# Altium integrated library LDO_DCDC.IntLib: 35 symbols
Pins are listed as number, name and electrical type; pins without a type are passive.

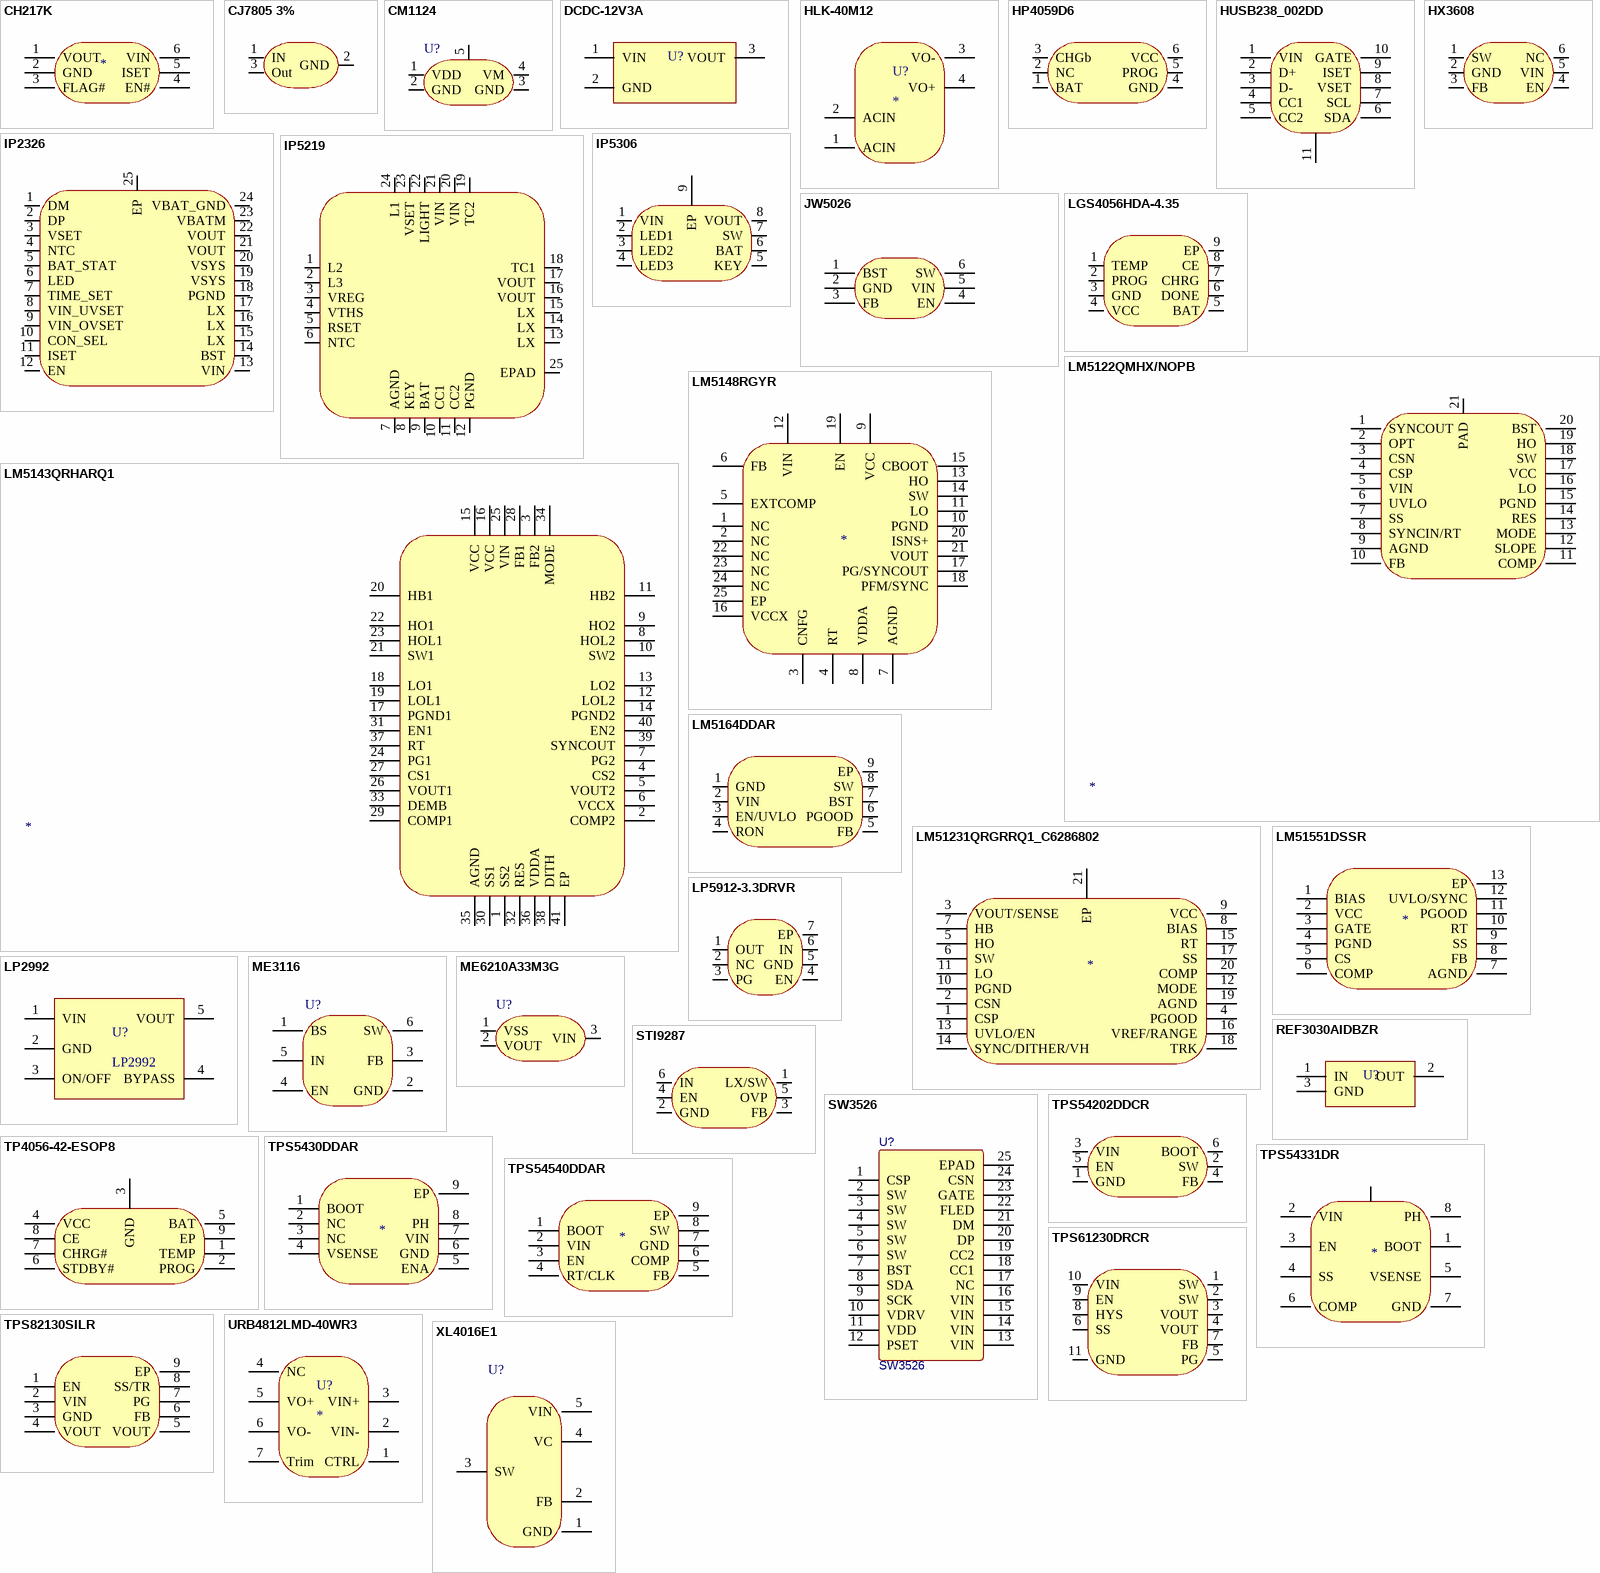
[diagram p0: symbols CH217K to XL4016E1]

## CH217K
designator U??
Symbol: CH217K
footprint SOT-23-6_L2.9-W1.6-P0.95-LS2.8-BR
pins: 1 VOUT, 2 GND, 3 FLAG#, 4 EN#, 5 ISET, 6 VIN

## CJ7805 3%
designator ?  (value not drawn)
Designer: U?; Symbol: CJ7805 3%; Device: CJ7805 3%
footprint TO-252-2_L6.6-W6.1-P4.58-LS10.1-BR-CW
pins: 1 IN, 2 GND, 3 Out

## CM1124
designator U?  (value not drawn)
Manufacturer: MICRONE(南京微盟); Name: ME6210A33M3G; Add into BOM: yes; Output Type: 固定; Output Polarity: 正; Number of Outputs: 1; Maximum Input Voltage: 18V; Output Voltage: 3.3V; Dropout Voltage: 260mV@(200mA); Output Current: 500mA; Symbol: ME6210A33M3G; Device: ME6210A33M3G; LCSC Part Name: ME6210A33M3G; Supplier Part: C236680; Manufacturer Part: ME6210A33M3G; Supplier Footprint: SOT-23; JLCPCB Part Class: 扩展库; Datasheet: https://atta.szlcsc.com/upload/public/pdf/source/20180709/C236680_4A9EFC836B6D96276770F83E6DC5A093.pdf; Supplier: LCSC; Convert to PCB: yes; Power Supply Rejection Ratio (PSRR): -
footprint DFN-4_L1.0-W1.0-P0.65-BL-EP-A
pins: 1 VDD, 2 GND, 3 GND, 4 VM, 5 EP

## DCDC-12V3A
designator U?
https://item.taobao.com/item.htm?spm=a230r.1.14.247.7f5f4dcbnTw3Vg&id=559221198936&ns=1&abbucket=7#detail
pins: 1 VIN, 2 GND, 3 VOUT

## HLK-40M12
designator U?
AC220V转DC12V隔离电源模块-AC-DC氮化镓稳压模块40W
footprint HLK-40M12
pins: 1 ACIN, 2 ACIN, 3 VO-, 4 VO+

## HP4059D6
designator U??  (value not drawn)
Manufacturer: TI(德州仪器); Name: TPS54202DDCR; Add into BOM: yes; Symbol: TPS54202DDCR; Device: TPS54202DDCR; LCSC Part Name: TPS54202DDCR; Supplier Part: C191884; Manufacturer Part: TPS54202DDCR; Supplier Footprint: SOT-23-6; JLCPCB Part Class: Extended Part; Datasheet: https://atta.szlcsc.com/upload/public/pdf/source/20181012/C191884_C6DBFD980275651BD8C8F427C2E48058.pdf; Supplier: LCSC; Convert to PCB: yes
footprint X2-DFN1010-6_L1.0-W1.0-P0.35-BL
pins: 1 BAT, 2 NC, 3 CHGb, 4 GND, 5 PROG, 6 VCC

## HUSB238_002DD
designator U??  (value not drawn)
Manufacturer: Hynetek(慧能泰); Add into BOM: yes; Symbol: HUSB238_002DD; Device: HUSB238_002DD; LCSC Part Name: HUSB238_002DD; Supplier Part: C7471904; Manufacturer Part: HUSB238_002DD; Supplier Footprint: DFN-10L(3x3); JLCPCB Part Class: Extended Part; Datasheet: https://atta.szlcsc.com/upload/public/pdf/source/20240407/14E2BCB22C39B22B34E48E1B6FC2FE3E.pdf; Supplier: LCSC; Convert to PCB: yes
footprint DFN-10_L3.0-W3.0-P0.50-BL-EP2.5
pins: 1 VIN, 2 D+, 3 D-, 4 CC1, 5 CC2, 6 SDA, 7 SCL, 8 VSET, 9 ISET, 10 GATE, 11 GND

## HX3608
designator U??  (value not drawn)
Manufacturer: HX(恒佳兴); Add into BOM: yes; Function: 升压型; Synchronous Rectification: 否; Number of Outputs: 1; Topology: 升压式; Input Voltage: 2V~24V; Output Voltage: 2.5V~28V; Output Current (Max): 3.5A; Switching Frequency: 1.2MHz; Name: HX3608; Symbol: HX3608; Device: HX3608; LCSC Part Name: 升压型 Vin=2V~24V Vout=2.5V~28V 3.5A; Supplier Part: C296278; Manufacturer Part: HX3608; Supplier Footprint: SOT-23-6L; JLCPCB Part Class: Extended Part; Datasheet: https://atta.szlcsc.com/upload/public/pdf/source/20181119/C296278_77FFD4221F60AEB235A13FC0B82FB718.pdf; Supplier: LCSC; Convert to PCB: yes
footprint SOT-23-6_L2.9-W1.6-P0.95-LS2.8-BR
pins: 1 SW, 2 GND, 3 FB, 4 EN, 5 VIN, 6 NC

## IP2326
designator U??  (value not drawn)
Manufacturer: INJOINIC(英集芯); Add into BOM: yes; Name: IP2326; Symbol: IP2326; Device: IP2326; LCSC Part Name: IP2326; Supplier Part: C2832094; Manufacturer Part: IP2326; Supplier Footprint: VQFN-24-EP(4x4); JLCPCB Part Class: Extended Part; Datasheet: https://atta.szlcsc.com/upload/public/pdf/source/20210701/C2832094_E17C44C11E64EBC07E8B83E7E48DDEF6.pdf; Supplier: LCSC; Convert to PCB: yes
footprint VQFN-24_L4.0-W4.0-P0.50-BL-EP2.5
pins: 1 DM, 2 DP, 3 VSET, 4 NTC, 5 BAT_STAT, 6 LED, 7 TIME_SET, 8 VIN_UVSET, 9 VIN_OVSET, 10 CON_SEL, 11 ISET, 12 EN, 13 VIN, 14 BST, 15 LX, 16 LX, 17 LX, 18 PGND, 19 VSYS, 20 VSYS, 21 VOUT, 22 VOUT, 23 VBATM, 24 VBAT_GND, 25 EP

## IP5219
designator U??  (value not drawn)
Manufacturer: INJOINIC(英集芯); Add into BOM: yes; Name: IP5219; Symbol: IP5219; Device: IP5219; LCSC Part Name: IP5219; Supplier Part: C181694; Manufacturer Part: IP5219; Supplier Footprint: QFN-24(4x4); JLCPCB Part Class: Extended Part; Datasheet: https://atta.szlcsc.com/upload/public/pdf/source/20221031/B544D9C3F53140D2F37FEB3A67CECE73.pdf; Supplier: LCSC; Convert to PCB: yes
footprint QFN_24
pins: 1 L2, 2 L3, 3 VREG, 4 VTHS, 5 RSET, 6 NTC, 7 AGND, 8 KEY, 9 BAT, 10 CC1, 11 CC2, 12 PGND, 13 LX, 14 LX, 15 LX, 16 VOUT, 17 VOUT, 18 TC1, 19 TC2, 20 VIN, 21 VIN, 22 LIGHT, 23 VSET, 24 L1, 25 EPAD

## IP5306
designator U??  (value not drawn)
Manufacturer: INJOINIC(英集芯); Add into BOM: yes; Name: IP5306; Symbol: IP5306; Device: IP5306; LCSC Part Name: IP5306; Supplier Part: C181692; Manufacturer Part: IP5306; Supplier Footprint: ESOP-8; JLCPCB Part Class: Extended Part; Datasheet: https://atta.szlcsc.com/upload/public/pdf/source/20180920/C181692_842C9BF636DF123BB66E91FC1AD6F13F.pdf; Supplier: LCSC; Convert to PCB: yes
footprint ESOP-8_L4.9-W3.9-P1.27-LS6.0-BL-EP
pins: 1 VIN, 2 LED1, 3 LED2, 4 LED3, 5 KEY, 6 BAT, 7 SW, 8 VOUT, 9 EP

## JW5026
designator U??
Symbol: JW5026
footprint SOT-23-6_L2.9-W1.6-P0.95-LS2.8-BR
pins: 1 BST, 2 GND, 3 FB, 4 EN, 5 VIN, 6 SW

## LGS4056HDA-4.35
designator ?  (value not drawn)
Designer: U?; Symbol: LGS4056HDA-4.35; Device: LGS4056HDA-4.35
footprint DFN-8_L2.0-W2.0-P0.50-BL-EP
pins: 1 TEMP, 2 PROG, 3 GND, 4 VCC, 5 BAT, 6 DONE, 7 CHRG, 8 CE, 9 EP

## LM5122QMHX/NOPB
designator U??
Symbol: LM5122QMHX/NOPB
footprint TSSOP-20_L6.5-W4.4-P0.65-LS6.4-BL-EP
pins: 1 SYNCOUT, 2 OPT, 3 CSN, 4 CSP, 5 VIN, 6 UVLO, 7 SS, 8 SYNCIN/RT, 9 AGND, 10 FB, 11 COMP, 12 SLOPE, 13 MODE, 14 RES, 15 PGND, 16 LO, 17 VCC, 18 SW, 19 HO, 20 BST, 21 PAD

## LM5143QRHARQ1
designator U??
Symbol: LM5143QRHARQ1
footprint VQFN-40_L6.0-W6.0-P0.50-TL-EP3.3
pins: 1 SS2, 2 COMP2, 3 FB2, 4 CS2, 5 VOUT2, 6 VCCX, 7 PG2, 8 HOL2, 9 HO2, 10 SW2, 11 HB2, 12 LOL2, 13 LO2, 14 PGND2, 15 VCC, 16 VCC, 17 PGND1, 18 LO1, 19 LOL1, 20 HB1, 21 SW1, 22 HO1, 23 HOL1, 24 PG1, 25 VIN, 26 VOUT1, 27 CS1, 28 FB1, 29 COMP1, 30 SS1, 31 EN1, 32 RES, 33 DEMB, 34 MODE, 35 AGND, 36 VDDA, 37 RT, 38 DITH, 39 SYNCOUT, 40 EN2, 41 EP

## LM5148RGYR
designator U??
Symbol: LM5148RGYR
footprint VQFN-24_L5.5-W3.5-P0.50-BL-EP-2
pins: 1 NC, 2 NC, 3 CNFG, 4 RT, 5 EXTCOMP, 6 FB, 7 AGND, 8 VDDA, 9 VCC, 10 PGND, 11 LO, 12 VIN, 13 HO, 14 SW, 15 CBOOT, 16 VCCX, 17 PG/SYNCOUT, 18 PFM/SYNC, 19 EN, 20 ISNS+, 21 VOUT, 22 NC, 23 NC, 24 NC, 25 EP

## LM5164DDAR
designator U??  (value not drawn)
Manufacturer: TI(德州仪器); Add into BOM: yes; Function: 降压型; Synchronous Rectification: 是; Output Type: 可调; Number of Outputs: 1; Topology: 降压式; Input Voltage: 6V~100V; Output Voltage: 1.2V~100V; Output Current (Max): 1A; Switching Frequency: 1MHz; Name: LM5164DDAR; Symbol: LM5164DDAR; Device: LM5164DDAR; LCSC Part Name: 降压型 输入6V~100V 输出1.2V~100V 1A; Supplier Part: C477928; Manufacturer Part: LM5164DDAR; Supplier Footprint: SO-8-EP; JLCPCB Part Class: Extended Part; Datasheet: https://atta.szlcsc.com/upload/public/pdf/source/20200102/C477928_A6130A40DCA2C193067E68A47DE8CF0C.pdf; Supplier: LCSC; Convert to PCB: yes; Operating Temperature: -40℃~+150℃@(TJ)
footprint SO-8_L4.9-W3.9-P1.27-LS6.0-BL-EP
pins: 1 GND, 2 VIN, 3 EN/UVLO, 4 RON, 5 FB, 6 PGOOD, 7 BST, 8 SW, 9 EP

## LM51231QRGRRQ1_C6286802
designator U??
Symbol: LM51231QRGRRQ1_C6286802
footprint VQFN-20_L3.5-W3.5-P0.50-BL-EP2.1
pins: 1 CSP, 2 CSN, 3 VOUT/SENSE, 4 PGOOD, 5 HO, 6 SW, 7 HB, 8 BIAS, 9 VCC, 10 PGND, 11 LO, 12 MODE, 13 UVLO/EN, 14 SYNC/DITHER/VH, 15 RT, 16 VREF/RANGE, 17 SS, 18 TRK, 19 AGND, 20 COMP, 21 EP

## LM51551DSSR
designator U??
Symbol: LM51551DSSR
footprint WSON-12_L3.0-W2.0-P0.5-BL-EP2.7
pins: 1 BIAS, 2 VCC, 3 GATE, 4 PGND, 5 CS, 6 COMP, 7 AGND, 8 FB, 9 SS, 10 RT, 11 PGOOD, 12 UVLO/SYNC, 13 EP

## LP2992
designator U?
LP2992_LDO
footprint SOT23_5
pins: 1 VIN, 2 GND, 3 ON/OFF, 4 BYPASS, 5 VOUT

## LP5912-3.3DRVR
designator U??  (value not drawn)
Manufacturer: TI(德州仪器); Add into BOM: yes; Name: LP5912-3.3DRVR; Symbol: LP5912-3.3DRVR; Device: LP5912-3.3DRVR; LCSC Part Name: LP5912-3.3DRVR; Supplier Part: C524780; Manufacturer Part: LP5912-3.3DRVR; Supplier Footprint: WSON-6; JLCPCB Part Class: Extended Part; Datasheet: https://atta.szlcsc.com/upload/public/pdf/source/20200429/C524780_91FF21983388DBC4383AC748C983A981.pdf; Supplier: LCSC; Convert to PCB: yes; Output Type: -
footprint WSON-6_L2.0-W2.0-P0.65-TL-EP
pins: 1 OUT, 2 NC, 3 PG, 4 EN, 5 GND, 6 IN, 7 EP

## ME3116
designator U?, comment ME3116AM6G_C97643  (value not drawn)
可输出电流:1A;最大输入电压:40V;; Manufacturer: MICRONE(南京微盟); Symbol: ME3116; Add into BOM: yes; Current - Output: 1A; Frequency - Switching: 550kHz; Output Type: Adjustable; Number of Outputs: 1; Voltage - Input (Min): 4.75V; Voltage - Input (Max): 40V; Topology: Buck; Synchronous Rectifier: No; Function: Step-Dow; Output Configuration: Positive; Name: ME3116AM6G; Device: ME3116AM6G_C97643; LCSC Part Name: ME3116AM6G; Supplier Part: C97643; Manufacturer Part: ME3116AM6G; Supplier Footprint: SOT-23-6; JLCPCB Part Class: 扩展库; Datasheet: https://atta.szlcsc.com/upload/public/pdf/source/20170322/1490151692992.pdf; Supplier: LCSC; Convert to PCB: yes; Voltage - Output (Min/Fixed): -; Voltage - Output (Max): -
footprint SOT-23-6_L2.9-W1.6-P0.95-LS2.8-BR
pins: 1 BS, 2 GND, 3 FB, 4 EN, 5 IN, 6 SW

## ME6210A33M3G
designator U?  (value not drawn)
输出类型:固定;输出极性:正;最大输入电压:18V;输出电压:3.3V;输出电流:500mA;电源纹波抑制比(PSRR):-;; Manufacturer: MICRONE(南京微盟); Add into BOM: yes; Output Type: 固定; Output Polarity: 正; Number of Outputs: 1; Maximum Input Voltage: 18V; Output Voltage: 3.3V; Dropout Voltage: 260mV@(200mA); Output Current: 500mA; Name: ME6210A33M3G; Symbol: ME6210A33M3G; Device: ME6210A33M3G; LCSC Part Name: ME6210A33M3G; Supplier Part: C236680; Manufacturer Part: ME6210A33M3G; Supplier Footprint: SOT-23; JLCPCB Part Class: 扩展库; Datasheet: https://atta.szlcsc.com/upload/public/pdf/source/20180709/C236680_4A9EFC836B6D96276770F83E6DC5A093.pdf; Supplier: LCSC; Convert to PCB: yes; Power Supply Rejection Ratio (PSRR): -
footprint SOT23_3 (SOT23, 3-Leads, Body 3.1x3.0mm (max), Pitch 0.95mm, IPC Medium Density)
pins: 1 VSS, 2 VOUT, 3 VIN

## REF3030AIDBZR
designator U?
footprint SOT23_3 (SOT23, 3-Leads, Body 3.1x3.0mm (max), Pitch 0.95mm, IPC Medium Density)
pins: 1 IN, 2 OUT, 3 GND

## STI9287
designator U??  (value not drawn)
Manufacturer: TMI(拓尔微); Add into BOM: yes; Name: STI9287; Symbol: STI9287; Device: STI9287; LCSC Part Name: STI9287; Supplier Part: C842664; Manufacturer Part: STI9287; Supplier Footprint: SOT-23-6; JLCPCB Part Class: Extended Part; Datasheet: https://atta.szlcsc.com/upload/public/pdf/source/20240703/B128564ECC0624FCB41061FE80512E84.pdf; Supplier: LCSC; Convert to PCB: yes
footprint SOT-23-6_L2.9-W1.6-P0.95-LS2.8-BR
pins: 1 LX/SW, 2 GND, 3 FB, 4 EN, 5 OVP, 6 IN

## SW3526
designator U?
Manufacturer: null; Contributor: LCSC; Supplier: LCSC; Supplier Part: C2912236; Manufacturer Part: SW3526; JLCPCB Part Class: Extended Part; spicePre: U; spiceSymbolName: SW3526
footprint QFN_24
pins: 1 CSP, 2 SW, 3 SW, 4 SW, 5 SW, 6 SW, 7 BST, 8 SDA, 9 SCK, 10 VDRV, 11 VDD, 12 PSET, 13 VIN, 14 VIN, 15 VIN, 16 VIN, 17 NC, 18 CC1, 19 CC2, 20 DP, 21 DM, 22 FLED, 23 GATE, 24 CSN, 25 EPAD

## TP4056-42-ESOP8
designator U??  (value not drawn)
Manufacturer: TOPPOWER(南京拓微); Symbol: TP4056; Add into BOM: yes; Name: TP4056-42-ESOP8; Device: TP4056-42-ESOP8; LCSC Part Name: TP4056-42-ESOP8; Supplier Part: C16581; Manufacturer Part: TP4056-42-ESOP8; Supplier Footprint: ESOP-8; JLCPCB Part Class: Extended Part; Datasheet: https://atta.szlcsc.com/upload/public/pdf/source/20190626/C16581_611BCF5D7CF554EAE465137A8F68DB3E.pdf; Supplier: LCSC; Convert to PCB: yes
footprint ESOP-8_L4.9-W3.9-P1.27-LS6.0-BL-EP
pins: 1 TEMP, 2 PROG, 3 GND, 4 VCC, 5 BAT, 6 STDBY#, 7 CHRG#, 8 CE, 9 EP

## TPS5430DDAR
designator U??
Symbol: TPS5430DDAR
footprint ESOP-8_L4.9-W3.9-P1.27-LS6.0-BL-EP
pins: 1 BOOT, 2 NC, 3 NC, 4 VSENSE, 5 ENA, 6 GND, 7 VIN, 8 PH, 9 EP

## TPS54202DDCR
designator U??  (value not drawn)
Manufacturer: TI(德州仪器); Add into BOM: yes; Name: TPS54202DDCR; Symbol: TPS54202DDCR; Device: TPS54202DDCR; LCSC Part Name: TPS54202DDCR; Supplier Part: C191884; Manufacturer Part: TPS54202DDCR; Supplier Footprint: SOT-23-6; JLCPCB Part Class: Extended Part; Datasheet: https://atta.szlcsc.com/upload/public/pdf/source/20181012/C191884_C6DBFD980275651BD8C8F427C2E48058.pdf; Supplier: LCSC; Convert to PCB: yes
footprint SOT-23-6_L2.9-W1.6-P0.95-LS2.8-BR
pins: 1 GND, 2 SW, 3 VIN, 4 FB, 5 EN, 6 BOOT

## TPS54331DR
designator U??
Symbol: TPS54331DR
footprint SO-8_L4.9-W3.9-P1.27-LS6.0-BL-EP
pins: 1 BOOT, 2 VIN, 3 EN, 4 SS, 5 VSENSE, 6 COMP, 7 GND, 8 PH, 9 EP

## TPS54540DDAR
designator U??
Symbol: TPS54540DDAR
footprint ESOP-8_L4.9-W3.9-P1.27-LS6.0-BL-EP
pins: 1 BOOT, 2 VIN, 3 EN, 4 RT/CLK, 5 FB, 6 COMP, 7 GND, 8 SW, 9 EP

## TPS61230DRCR
designator ?  (value not drawn)
Designer: U?; Symbol: TPS61230DRCR; Device: TPS61230DRCR
footprint VSON-10_L3.0-W3.0-P0.50-TL-EP_TPS61230DRCR
pins: 1 SW, 2 SW, 3 VOUT, 4 VOUT, 5 PG, 6 SS, 7 FB, 8 HYS, 9 EN, 10 VIN, 11 GND

## TPS82130SILR
designator U??  (value not drawn)
Manufacturer: TI(德州仪器); Add into BOM: yes; Name: TPS82130SILR; Symbol: TPS82130SILR; Device: TPS82130SILR; LCSC Part Name: TPS82130SILR; Supplier Part: C473914; Manufacturer Part: TPS82130SILR; Supplier Footprint: USIP-8; JLCPCB Part Class: Extended Part; Datasheet: https://www.ti.com/cn/lit/gpn/tps82130; Supplier: LCSC; Convert to PCB: yes
footprint USIP-8_L3.0-W2.8-P0.65-TL-EP
pins: 1 EN, 2 VIN, 3 GND, 4 VOUT, 5 VOUT, 6 FB, 7 PG, 8 SS/TR, 9 EP

## URB4812LMD-40WR3
designator U?
48V转12V隔离电源模块-DC-DC稳压模块40W
footprint URB4812LMD-40WR3
pins: 1 CTRL, 2 VIN-, 3 VIN+, 4 NC, 5 VO+, 6 VO-, 7 Trim

## XL4016E1
designator U?  (value not drawn)
功能类型:降压型;同步整流:否;输出通道数:1;拓扑结构:降压式;输入电压:8V~40V;输出电压:1.25V~36V;输出电流(最大值):8A;开关频率:180kHz;; Manufacturer: XLSEMI(芯龙); Add into BOM: yes; Function: 降压型; Synchronous Rectification: 否; Number of Outputs: 1; Topology: 降压式; Input Voltage: 8V~40V; Output Current (Max): 8A; Switching Frequency: 180kHz; Name: XL4016E1; Symbol: XL4016E1; Device: XL4016E1; LCSC Part Name: 降压型 Vin=8V~40V Vout=1.25V~36V 8A; Supplier Part: C55881; Manufacturer Part: XL4016E1; Supplier Footprint: TO-220-5; JLCPCB Part Class: 扩展库; Datasheet: https://atta.szlcsc.com/upload/public/pdf/source/20221017/BA256A5392B705775B4C335FAFB3EDCF.pdf; Supplier: LCSC; Convert to PCB: yes; Output Voltage: 1.25V~36V
footprint TO-220-5L_L10.2-W4.5-P1.71-L
pins: 1 GND, 2 FB, 3 SW, 4 VC, 5 VIN